# EAGLE library part 56579-0576 (library con-usb)
USB - OTG, miniUSB Type AB, Molex
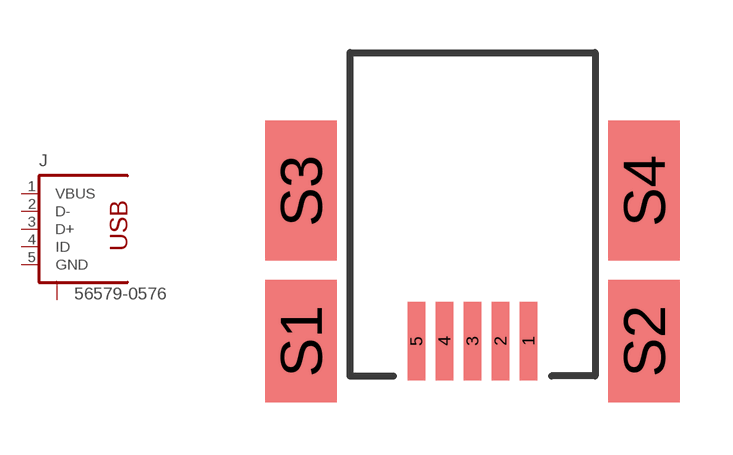
[diagram p3: symbol with the pads of 56579-0576; footprint 56579-0576]

Designator prefix J

## 56579-0576  [56579-0576]
1  VBUS  pas
2  D-  pas
3  D+  pas
4  ID  pas
5  GND  pas
S1  S1  pas
S2  S2  pas
S3  S3  pas
S4  S4  pas

## Footprint 56579-0576 (pad centres in mm)
USB - OTG, miniUSB Type AB Molex
smd 0.5 x 2.25: 1 1.6,0; 2 0.8,0; 3 0,0; 4 -0.8,0; 5 -1.6,0
smd 2.05 x 3.5: S1 -4.9,0; S2 4.9,0
smd 2.05 x 4: S3 -4.9,4.3; S4 4.9,4.3